# EAGLE library part MSP-FET430UIF_CONNECTOR (library gecko)
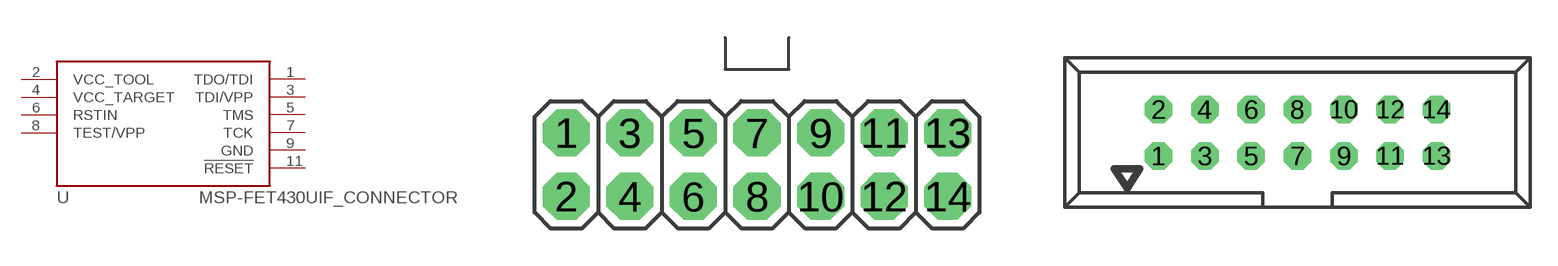
[diagram p1: symbol with the pads of 2X7; footprints 2X7, HEADER_14]

Designator prefix -

## MSP-FET430UIF_CONNECTOR  [2X7]
1  TDO/TDI
2  VCC_TOOL
3  TDI/VPP
4  VCC_TARGET
5  TMS
6  RSTIN
7  TCK
8  TEST/VPP
9  GND
11  !RESET

## MSP-FET430UIF_CONNECTORSOCKET  [HEADER_14]
Pads as for 2X7

## Footprint 2X7 (pad centres in mm)
drill 1.016 pad 1.88 octagon: 1 -7.62,1.27; 2 -7.62,-1.27; 3 -5.08,1.27; 4 -5.08,-1.27; 5 -2.54,1.27; 6 -2.54,-1.27; 7 0,1.27; 8 0,-1.27; 9 2.54,1.27; 10 2.54,-1.27; 11 5.08,1.27; 12 5.08,-1.27; 13 7.62,1.27; 14 7.62,-1.27

## Footprint HEADER_14 (pad centres in mm)
drill 1 octagon: 1 -7.62,-1.27; 2 -7.62,1.27; 3 -5.08,-1.27; 4 -5.08,1.27; 5 -2.54,-1.27; 6 -2.54,1.27; 7 0,-1.27; 8 0,1.27; 9 2.54,-1.27; 10 2.54,1.27; 11 5.08,-1.27; 12 5.08,1.27; 13 7.62,-1.27; 14 7.62,1.27